# Altium schematic symbol library shm_schem_lib.SchLib: 49 symbols (part 2 of 2)
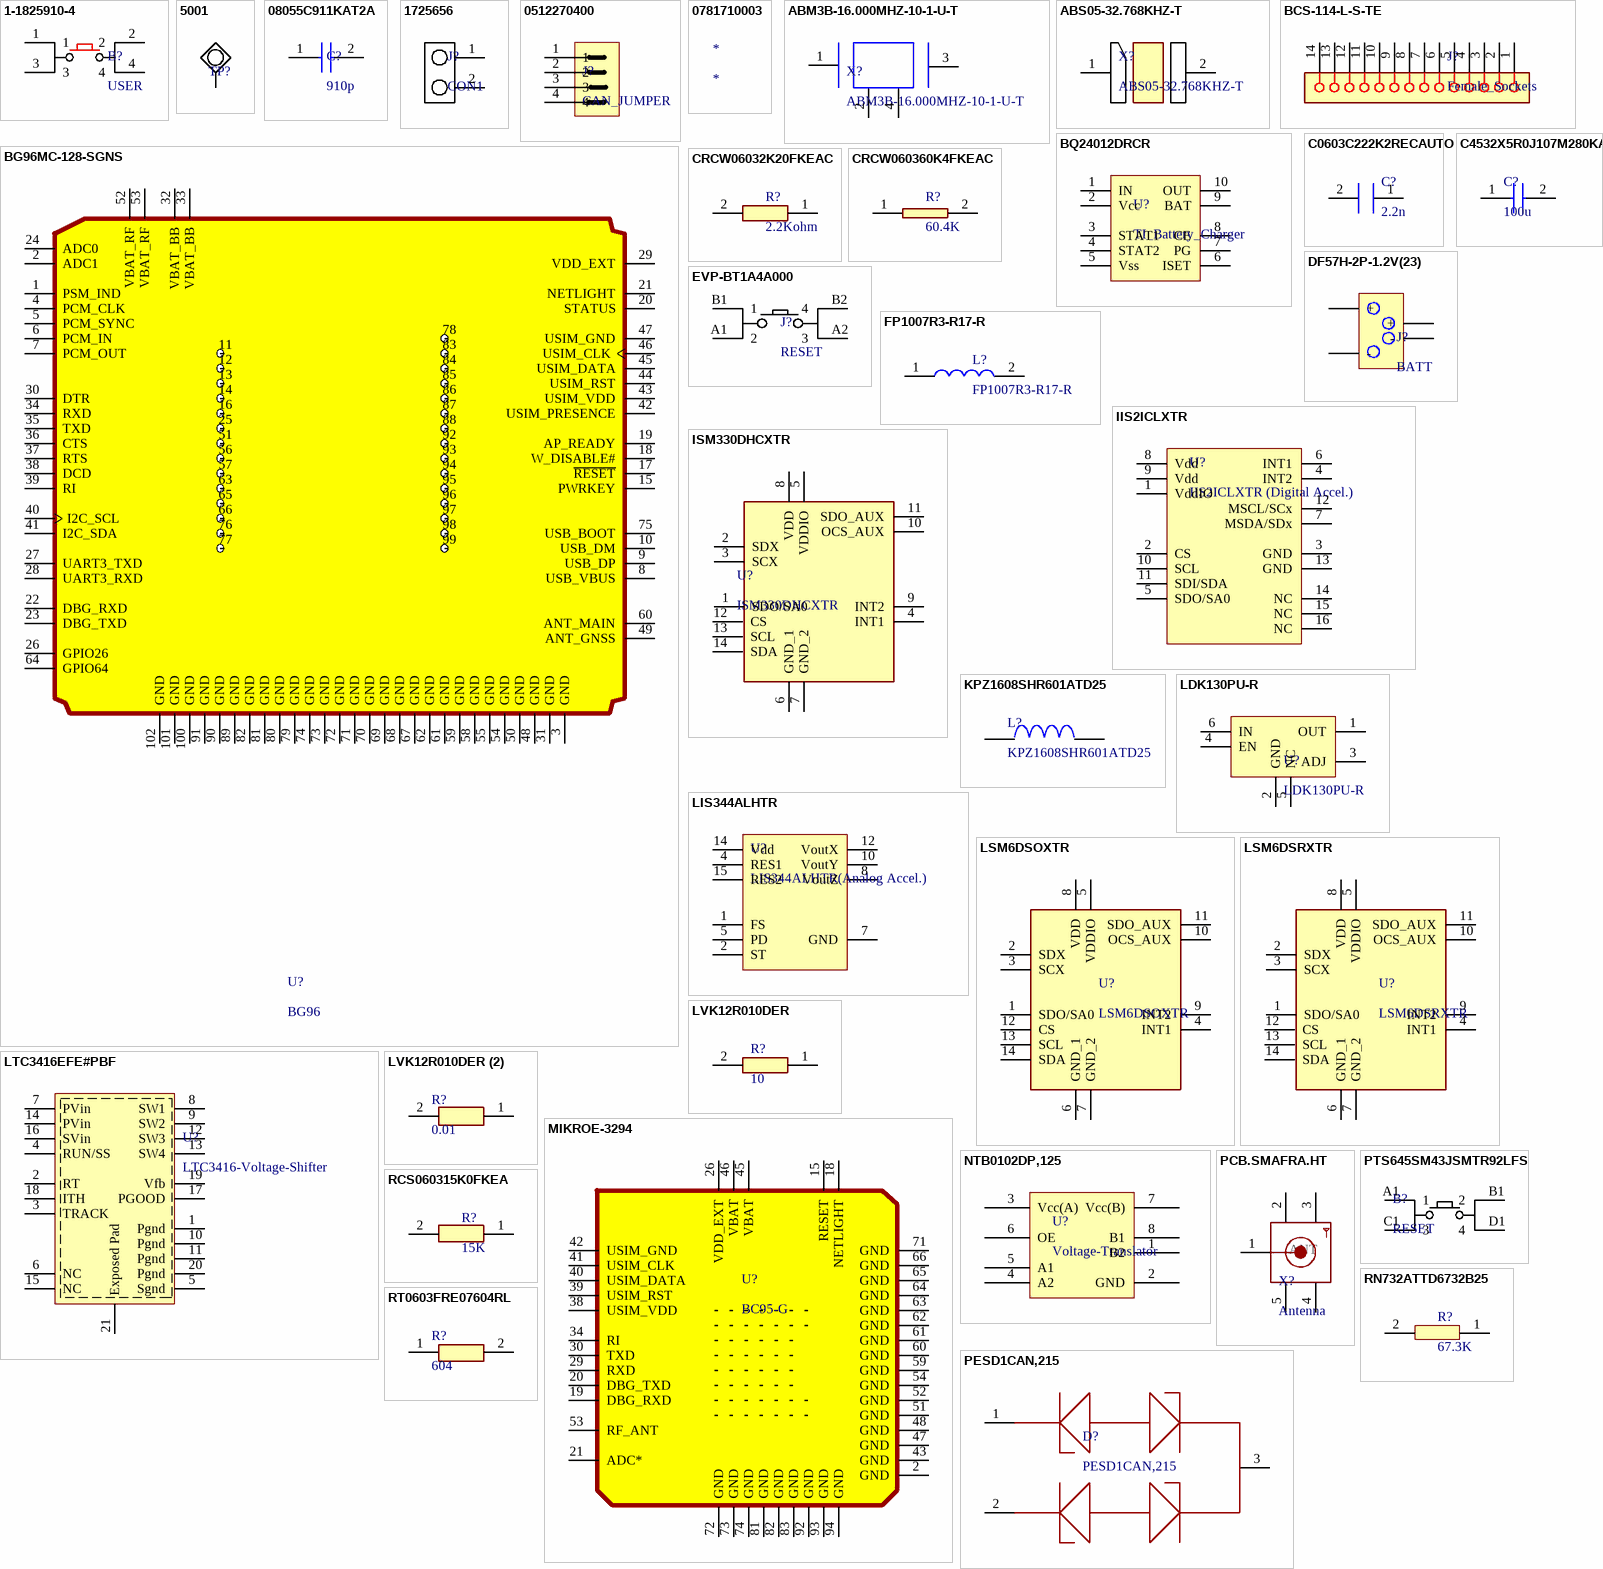
[diagram p2: symbols 1-1825910-4 to RT0603FRE07604RL]

## RT0603FRE07604RL
designator R?, comment 604
Res Thin Film 0603 604 Ohm 1% 1/10W ±50ppm/°C Molded SMD SMD Paper T/R; Manufacturer: Yageo; Manufacturer Part Number: RT0603FRE07604RL; Voltage Rating: 75V; Resistance: 604R; Power Rating: 100mW; Voltage Rating (DC): 50V; Supplier 1: Digi-Key; Supplier Part Number 1: 13-RT0603FRE07604RLCT-ND; RoHS: Yes; Category: Chip SMD Resistors; Stock 1: 6284; Case/Package: 0603; Case Code (Metric): 1608; Case Code (Imperial): 0603; Contact Plating: Tin,Matte; Min Operating Temperature: -55°C; Max Operating Temperature: 125°C; Tolerance: 1%; Packaging: Tape and Reel; Package Quantity: 5000; Resistor Type: Thin Film; Termination: SMD/SMT; Number of Terminations: 2; Temperature Coefficient: 50ppm/°C; Max Power Dissipation: 100mW; Series: RT; Construction: Rectangular; Length: 0.063inch; Width: 0.031inch; Height: 0.022inch; Depth: 0.8mm; Radiation Hardening: No; Military Standard: Not; Lead Free: Lead Free; RoHS Compliant: Yes; ComponentLink1URL: https://datasheet.ciiva.com/2559/pyu-rt-1-to-0-05-rohs-l-5-2559885.pdf?src-supplier=Digi-Key; ComponentLink1Description: https://datasheet.ciiva.com/2559/pyu-rt-1-to-0-05-rohs-l-5-2559885.pdf?src-supplier=Digi-Key; ComponentLink2URL: https://datasheet.ciiva.com/8885/pyu-rt-1-to-0-05-rohs-l-4-8885229.pdf?src-supplier=Avnet; ComponentLink2Description: https://datasheet.ciiva.com/8885/pyu-rt-1-to-0-05-rohs-l-4-8885229.pdf?src-supplier=Avnet
pins: 1, 2

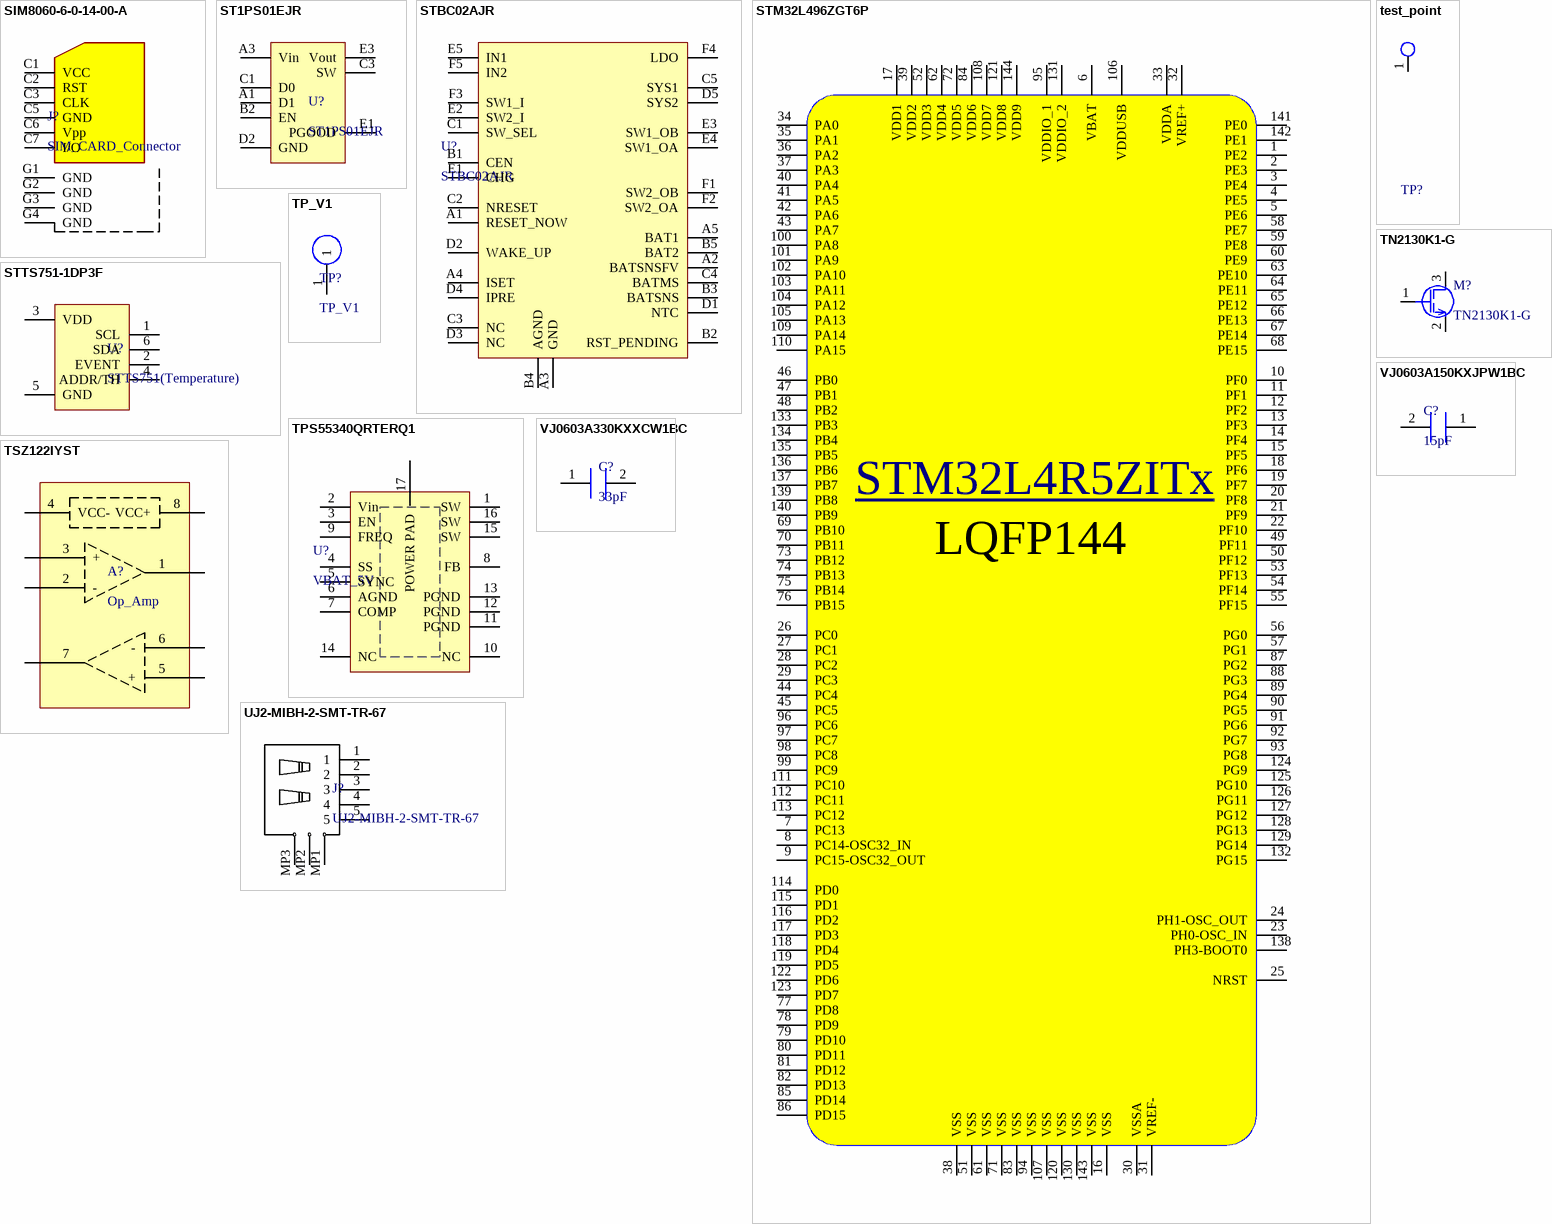
[diagram p1: symbols SIM8060-6-0-14-00-A to VJ0603A330KXXCW1BC]

## SIM8060-6-0-14-00-A
designator J?, comment SIM_CARD_Connector
Sim Nano Hinged, 6P, 1.40MM Prof; Manufacturer: GCT; Manufacturer Part Number: SIM8060-6-0-14-00-A; Supplier 1: Digi-Key; Supplier Part Number 1: 2073-SIM8060-6-0-14-00-ACT-ND
footprint SIM8060601400A
pins: C1 VCC, C2 RST, C3 CLK, C5 GND, C6 Vpp, C7 I/O, G1 GND, G2 GND, G3 GND, G4 GND

## ST1PS01EJR
designator U?
400mA Nano-Quiescent Synchronous step-down converter with digital voltage select; Manufacturer: STMicroelectronics; Output Type: Fixed; Output Configuration: Positive; Number of Outputs: 1; Min Input Voltage: 1.8V; Max Input Voltage: 5.5V; Min Output Voltage: 3.3V; Switching Frequency: 2MHz; Synchronous Rectifier: Yes; Supplier 1: RSComponents; Supplier Part Number 1: 1924839; Manufacturer Part Number: ST1PS01EJR; RoHS: Yes; Category: Voltage Regulators - Switching; Stock 1: 500; Mount: Surface Mount; Min Operating Temperature: -40°C; Max Operating Temperature: 85°C; Packaging: Tape and Reel; Output Current: 400mA; RoHS Compliant: Yes; ComponentLink1URL: https://www.st.com/resource/en/datasheet/st1ps01.pdf?src-supplier=Digi-Key; ComponentLink1Description: https://www.st.com/resource/en/datasheet/st1ps01.pdf?src-supplier=Digi-Key
footprint ST1PS01EJR
pins: A1 D1, A3 Vin, B2 EN, C1 D0, C3 SW, D2 GND, E1 PGOOD, E3 Vout

## STBC02AJR
designator U?
Li-Ion linear battery charger with LDO, load switches and reset generator; Manufacturer: STMicroelectronics; Number of Cells: 1; Max Charge Current: 450mA; Supplier 1: Digi-Key; Supplier Part Number 1: 497-16561-1-ND; Manufacturer Part Number: STBC02AJR; RoHS: Yes; Category: Power Management ICs; Stock 1: 2944; Number of Pins: 30; Min Operating Temperature: -40°C; Max Operating Temperature: 85°C; Packaging: Cut Tape; REACH SVHC: No SVHC; RoHS Compliant: Yes; ComponentLink1URL: http://www.st.com/content/ccc/resource/technical/document/datasheet/group3/af/ef/64/cd/00/0f/41/1a/DM00289033/files/DM00289033.pdf/jcr:content/translations/en.DM00289033.pdf?src-supplier=Digi-Key; ComponentLink1Description: http://www.st.com/content/ccc/resource/technical/document/datasheet/group3/af/ef/64/cd/00/0f/41/1a/DM00289033/files/DM00289033.pdf/jcr:content/translations/en.DM00289033.pdf?src-supplier=Digi-Key; ComponentLink2URL: http://www.farnell.com/datasheets/2145097.pdf?src-supplier=Element14; ComponentLink2Description: http://www.farnell.com/datasheets/2145097.pdf?src-supplier=Element14
footprint BGA30C40P5X6_225X259X60
pins: A1 RESET_NOW, A2 BATSNSFV, A3 GND, A4 ISET, A5 BAT1, B1 CEN, B2 RST_PENDING, B3 BATSNS, B4 AGND, B5 BAT2, C1 SW_SEL, C2 NRESET, C3 NC, C4 BATMS, C5 SYS1, D1 NTC, D2 WAKE_UP, D3 NC, D4 IPRE, D5 SYS2, E1 CHG, E2 SW2_I, E3 SW1_OB, E4 SW1_OA, E5 IN1, F1 SW2_OB, F2 SW2_OA, F3 SW1_I, F4 LDO, F5 IN2

## STM32L496ZGT6P
designator U?
Ultra-low-power with FPU ARM Cortex-M4 MCU 80 MHz with 1 Mbyte Flash, USB OTG, LCD, DFSDM; Manufacturer: STMicroelectronics; Interface: I2C,SPI,USB,IrDA,MMC,SD,UART,USART,EBI/EMI; Peripherals: Brown-out Detect/Reset,PWM,WDT,DMA,LCD; Frequency: 80MHz; Number of I/Os: 115; Memory Size: 1MB; Oscillator Type: Internal; Supplier 1: Digi-Key; Supplier Part Number 1: 497-17999-ND; Manufacturer Part Number: STM32L496ZGT6P; RoHS: Yes; Category: Microcontrollers; Case/Package: LQFP; Min Operating Temperature: -40°C; Max Operating Temperature: 85°C; Memory Type: FLASH; Packaging: Tray; Core Architecture: ARM; ComponentLink1URL: http://www.farnell.com/datasheets/2602789.pdf?src-supplier=Farnell; ComponentLink1Description: http://www.farnell.com/datasheets/2602789.pdf?src-supplier=Farnell; ComponentLink2URL: http://www.st.com/content/ccc/resource/technical/document/datasheet/group3/3f/73/19/d1/d4/9e/48/34/DM00284211/files/DM00284211.pdf/jcr:content/translations/en.DM00284211.pdf?src-supplier=Digi-Key; ComponentLink2Description: http://www.st.com/content/ccc/resource/technical/document/datasheet/group3/3f/73/19/d1/d4/9e/48/34/DM00284211/files/DM00284211.pdf/jcr:content/translations/en.DM00284211.pdf?src-supplier=Digi-Key; ComponentLink3URL: http://www.farnell.com/datasheets/2602789.pdf?src-supplier=Newark; ComponentLink3Description: http://www.farnell.com/datasheets/2602789.pdf?src-supplier=Newark
footprint QFP50P2200X2200X160-144N
pins: 1 PE2, 2 PE3, 3 PE4, 4 PE5, 5 PE6, 6 VBAT, 7 PC13, 8 PC14-OSC32_IN, 9 PC15-OSC32_OUT, 10 PF0, 11 PF1, 12 PF2, 13 PF3, 14 PF4, 15 PF5, 16 VSS, 17 VDD1, 18 PF6, 19 PF7, 20 PF8, 21 PF9, 22 PF10, 23 PH0-OSC_IN, 24 PH1-OSC_OUT, 25 NRST, 26 PC0, 27 PC1, 28 PC2, 29 PC3, 30 VSSA, 31 VREF-, 32 VREF+, 33 VDDA, 34 PA0, 35 PA1, 36 PA2, 37 PA3, 38 VSS, 39 VDD2, 40 PA4, 41 PA5, 42 PA6, 43 PA7, 44 PC4, 45 PC5, 46 PB0, 47 PB1, 48 PB2, 49 PF11, 50 PF12, 51 VSS, 52 VDD3, 53 PF13, 54 PF14, 55 PF15, 56 PG0, 57 PG1, 58 PE7, 59 PE8, 60 PE9, 61 VSS, 62 VDD4, 63 PE10, 64 PE11, 65 PE12, 66 PE13, 67 PE14, 68 PE15, 69 PB10, 70 PB11, 71 VSS, 72 VDD5, 73 PB12, 74 PB13, 75 PB14, 76 PB15, 77 PD8, 78 PD9, 79 PD10, 80 PD11, 81 PD12, 82 PD13, 83 VSS, 84 VDD6, 85 PD14, 86 PD15, 87 PG2, 88 PG3, 89 PG4, 90 PG5, 91 PG6, 92 PG7, 93 PG8, 94 VSS, 95 VDDIO_1, 96 PC6, 97 PC7, 98 PC8, 99 PC9, 100 PA8, 101 PA9, 102 PA10, 103 PA11, 104 PA12, 105 PA13, 106 VDDUSB, 107 VSS, 108 VDD7, 109 PA14, 110 PA15, 111 PC10, 112 PC11, 113 PC12, 114 PD0, 115 PD1, 116 PD2, 117 PD3, 118 PD4, 119 PD5, 120 VSS, 121 VDD8, 122 PD6, 123 PD7, 124 PG9, 125 PG10, 126 PG11, 127 PG12, 128 PG13, 129 PG14, 130 VSS, 131 VDDIO_2, 132 PG15, 133 PB3, 134 PB4, 135 PB5, 136 PB6, 137 PB7, 138 PH3-BOOT0, 139 PB8, 140 PB9, 141 PE0, 142 PE1, 143 VSS, 144 VDD9
text: STM32L4R5ZITx; LQFP144

## STTS751-1DP3F
designator U?, comment STTS751(Temperature)
SENSOR TEMPERATURE SMBUS 6UDFN; Manufacturer: STMicroelectronics; Manufacturer Part Number: STTS751-1DP3F; Interface: I2C,SMBus,2-Wire,Serial; Resolution: 12b; Output Type: Digital; Max Output Current: 20mA; Min Supply Voltage: 2.25V; Max Supply Voltage: 3.6V; Min Supply Voltage (DC): 2V; Operating Supply Current: 50uA; Supplier 1: RSComponents; Supplier Part Number 1: 1908454; RoHS: Yes; Category: Sensors; Stock 1: 1; Mount: Surface Mount; Number of Pins: 6; Min Operating Temperature: -40°C; Max Operating Temperature: 125°C; Package Quantity: 3000; Packaging: Tape and Reel; Output Current: 20mA; Max Supply Voltage (DC): 3.6V; Series: STTS751; Radiation Hardening: No; Lead Free: Lead Free; RoHS Compliant: Yes; ComponentLink1URL: https://datasheet.ciiva.com/5299/cd00252523-68863-5299731.pdf?src-supplier=Mouser; ComponentLink1Description: https://datasheet.ciiva.com/5299/cd00252523-68863-5299731.pdf?src-supplier=Mouser; ComponentLink2URL: https://datasheet.ciiva.com/2003/cd00252523-2003053.pdf?src-supplier=Digi-Key; ComponentLink2Description: https://datasheet.ciiva.com/2003/cd00252523-2003053.pdf?src-supplier=Digi-Key; ComponentLink3URL: https://datasheet.ciiva.com/2003/cd00252523-2003054.pdf?src-supplier=Digi-Key; ComponentLink3Description: https://datasheet.ciiva.com/2003/cd00252523-2003054.pdf?src-supplier=Digi-Key; ComponentLink4URL: https://datasheet.ciiva.com/16635/cd00252523-16635462.pdf?src-supplier=Avnet+Europe; ComponentLink4Description: https://datasheet.ciiva.com/16635/cd00252523-16635462.pdf?src-supplier=Avnet+Europe; ComponentLink5URL: https://datasheet.ciiva.com/2003/cd00252523-2003052.pdf?src-supplier=Digi-Key; ComponentLink5Description: https://datasheet.ciiva.com/2003/cd00252523-2003052.pdf?src-supplier=Digi-Key
footprint SOT95P280X145-6N
pins: 1 SCL, 2 EVENT, 3 VDD, 4 ADDR/TH, 5 GND, 6 SDA

## test_point
designator TP?  (value not drawn)  (no BOM)
footprint test_point
pins: 1 TP

## TN2130K1-G
designator M?
Mosfet, N-Channel Enhancement-Mode, 300V, 25 Ohm Rohs Compliant: Yes; Manufacturer: Microchip Supertex; Rise Time: 7ns; Continuous Drain Current (ID): 85mA; Power Dissipation: 360mW; Drain to Source Resistance: 25R; Turn-Off Delay Time: 12ns; Number of Elements: 1; Gate to Source Voltage (Vgs): 20V; Element Configuration: Single; Supplier 1: Digi-Key; Supplier Part Number 1: TN2130K1-GCT-ND; Manufacturer Part Number: TN2130K1-G; RoHS: Yes; Category: MOSFETs; Stock 1: 1445; Mount: Surface Mount; Case/Package: SOT-23; Number of Pins: 3; Min Operating Temperature: -55°C; Max Operating Temperature: 150°C; Package Quantity: 3000; Packaging: Tape and Reel; Drain to Source Breakdown Voltage: 300V; Fall Time: 7ns; Radiation Hardening: No; Lead Free: Lead Free; ComponentLink1URL: https://datasheet.ciiva.com/30232/616tn2130-30232358.pdf?src-supplier=Onlinecomponents.com; ComponentLink1Description: https://datasheet.ciiva.com/30232/616tn2130-30232358.pdf?src-supplier=Onlinecomponents.com; ComponentLink2URL: https://datasheet.ciiva.com/16232/tn2130-16232280.pdf?src-supplier=Onlinecomponents.com; ComponentLink2Description: https://datasheet.ciiva.com/16232/tn2130-16232280.pdf?src-supplier=Onlinecomponents.com
footprint SOT95P237X112-3N
pins: 1 G, 2 S, 3 D

## TP_V1
designator TP?
footprint TP_V1
pins: 1

## TPS55340QRTERQ1
designator U?, comment VBAT_5V
Conv DC-DC 2.9V to 38V Step Up Single-Out 2.9V to 38V 5A Automotive 16-Pin WQFN EP T/R; Manufacturer: Texas Instruments; Manufacturer Part Number: TPS55340QRTERQ1; Number of Outputs: 1; Output Current: 5.25A; Switching Frequency: 2.55MHz; Synchronous Rectifier: No; Quiescent Current: 500uA; Topology: Boost,Flyback,SEPIC; Output Type: Adjustable; Supplier 1: Mouser; Supplier Part Number 1: 595-TPS55340QRTERQ1; RoHS: Yes; Category: Power Supply Modules; Stock 1: 60; Mount: Surface Mount; Number of Pins: 16; Contact Plating: Gold; Min Operating Temperature: -40°C; Max Operating Temperature: 125°C; Packaging: Tape and Reel; Output Voltage: 38V; Max Output Current: 5A; Min Input Voltage: 2.9V; Max Input Voltage: 38V; Min Output Voltage: 2.9V; Max Output Voltage: 38V; Operating Supply Voltage: 38V; Lead Free: Lead Free; RoHS Compliant: Yes; ComponentLink1URL: http://components.arrow.com/part/dataview/66951772S909397N7713?src-supplier=Arrow+Electronics; ComponentLink1Description: http://components.arrow.com/part/dataview/66951772S909397N7713?src-supplier=Arrow+Electronics; ComponentLink2URL: http://www.ti.com/general/docs/lit/getliterature.tsp?genericPartNumber=TPS55340-Q1&&fileType=pdf&src-supplier=Avnet; ComponentLink2Description: http://www.ti.com/general/docs/lit/getliterature.tsp?genericPartNumber=TPS55340-Q1&&fileType=pdf&src-supplier=Avnet; ComponentLink3URL: http://www.ti.com/general/docs/lit/getliterature.tsp?genericPartNumber=TPS55340-Q1&&fileType=pdf&src-supplier=Avnet+Asia; ComponentLink3Description: http://www.ti.com/general/docs/lit/getliterature.tsp?genericPartNumber=TPS55340-Q1&&fileType=pdf&src-supplier=Avnet+Asia; ComponentLink4URL: http://www.ti.com/lit/ds/symlink/tps55340-q1.pdf?src-supplier=Digi-Key; ComponentLink4Description: http://www.ti.com/lit/ds/symlink/tps55340-q1.pdf?src-supplier=Digi-Key
footprint QFN50P300X300X80-17N-D
pins: 1 SW, 2 Vin, 3 EN, 4 SS, 5 SYNC, 6 AGND, 7 COMP, 8 FB, 9 FREQ, 10 NC, 11 PGND, 12 PGND, 13 PGND, 14 NC, 15 SW, 16 SW, 17 POWER PAD

## TSZ122IYST
designator A?, comment Op_Amp
Op Amp Dual Micropower Amplifier R-R I/O 5.5V Automotive 8-Pin Mini-SO T/R; Manufacturer: STMicroelectronics; Manufacturer Part Number: TSZ122IYST; Number of Circuits: 2; Slew Rate: 0.19V/µs; Gain Bandwidth Product: 400kHz; Input Bias Current: 70pA; Input Offset Voltage (Vos): 1uV; Operating Supply Current: 31uA; Output Current per Channel: 18mA; Supplier 1: Mouser; Supplier Part Number 1: 511-TSZ122IYST; RoHS: Yes; Category: Amplifiers - Op Amps, Buffer, Instrumentation; Stock 1: 4000; Mount: Surface Mount; Case/Package: SOIC; Number of Pins: 8; Min Operating Temperature: -40°C; Max Operating Temperature: 125°C; Packaging: Tape and Reel; Bandwidth: 400kHz; Number of Amplifiers: 2; REACH SVHC: No SVHC; Lead Free: Lead Free; RoHS Compliant: Yes; ComponentLink1URL: http://www.farnell.com/datasheets/1878184.pdf?src-supplier=Farnell; ComponentLink1Description: http://www.farnell.com/datasheets/1878184.pdf?src-supplier=Farnell; ComponentLink2URL: http://www.mouser.com/ds/2/389/tsz121-957398.pdf?src-supplier=Mouser; ComponentLink2Description: http://www.mouser.com/ds/2/389/tsz121-957398.pdf?src-supplier=Mouser; ComponentLink3URL: http://www.st.com/st-web-ui/static/active/en/resource/technical/document/datasheet/DM00062815.pdf?src-supplier=Avnet; ComponentLink3Description: http://www.st.com/st-web-ui/static/active/en/resource/technical/document/datasheet/DM00062815.pdf?src-supplier=Avnet; ComponentLink4URL: http://www.farnell.com/datasheets/1878184.pdf?src-supplier=Element14; ComponentLink4Description: http://www.farnell.com/datasheets/1878184.pdf?src-supplier=Element14; ComponentLink5URL: http://www.st.com/content/ccc/resource/technical/document/datasheet/9d/1c/c1/8f/72/a2/48/95/DM00062815.pdf/files/DM00062815.pdf/jcr:content/translations/en.DM00062815.pdf?src-supplier=Digi-Key; ComponentLink5Description: http://www.st.com/content/ccc/resource/technical/document/datasheet/9d/1c/c1/8f/72/a2/48/95/DM00062815.pdf/files/DM00062815.pdf/jcr:content/translations/en.DM00062815.pdf?src-supplier=Digi-Key
pins: 1, 2 -, 3 +, 4 VCC-, 5 +, 6 -, 7, 8 VCC+

## UJ2-MIBH-2-SMT-TR-67
designator J?
Micro B, USB 2.0, 1.8 A, Right Angle, Surface Mount (SMT), Waterproof, USB Receptacle; Manufacturer: CUI Devices; Supplier 1: Digi-Key; Supplier Part Number 1: 102-5575-1-ND; Manufacturer Part Number: UJ2-MIBH-2-SMT-TR-67; RoHS: Yes; Category: USB Connectors; Stock 1: 65
footprint UJ2MIBH2SMTTR67
pins: 1, 2, 3, 4, 5, MP1, MP2, MP3

## VJ0603A150KXJPW1BC
designator C?, comment 15pF
CAP CER 15PF 16V C0G/NP0 0603; Manufacturer: Vishay Vitramon; Manufacturer Part Number: VJ0603A150KXJPW1BC; Dielectric Material: Tantalum; Tolerance: 10%; Dielectric: C0G; Supplier 1: Digi-Key; Supplier Part Number 1: 720-VJ0603A150KXJPW1BCCT-ND; RoHS: Yes; Category: Ceramic Capacitors; Stock 1: 13534; Mount: Surface Mount; Case/Package: 0603; Case Code (Imperial): 0603; Case Code (Metric): 1608; Min Operating Temperature: -55°C; Max Operating Temperature: 125°C; Capacitance: 15pF; Voltage Rating: 16V; Voltage Rating (DC): 16V; Packaging: Tape and Reel; Package Quantity: 15000; Termination: SMD/SMT; Series: VJ W1BC; Construction: Flat; Length: 1.6mm; Width: 0.8mm; Height: 0.95mm; Depth: 0.8mm; Lead Free: Lead Free; RoHS Compliant: Yes; ComponentLink1URL: https://datasheet.ciiva.com/5423/vjw1bcbascomseries-223529-5423350.pdf?src-supplier=Mouser; ComponentLink1Description: https://datasheet.ciiva.com/5423/vjw1bcbascomseries-223529-5423350.pdf?src-supplier=Mouser; ComponentLink2URL: https://datasheet.ciiva.com/16503/vjw1bcbascomseries-16503578.pdf?src-supplier=Future+Electronics; ComponentLink2Description: https://datasheet.ciiva.com/16503/vjw1bcbascomseries-16503578.pdf?src-supplier=Future+Electronics
pins: 1, 2

## VJ0603A330KXXCW1BC
designator C?, comment 33pF
Cap Ceramic 33pF 25V C0G 10% SMD 0603 125°C Paper T/R; Manufacturer: Vishay Vitramon; Manufacturer Part Number: VJ0603A330KXXCW1BC; Dielectric Material: Tantalum; Supplier 1: Mouser; Supplier Part Number 1: 77-VJ0603A330KXXCBC; RoHS: Yes; Category: Ceramic Capacitors; Stock 1: 1121; Mount: Surface Mount; Case/Package: 0603; Case Code (Imperial): 0603; Case Code (Metric): 1608; Min Operating Temperature: -55°C; Max Operating Temperature: 125°C; Capacitance: 33pF; Tolerance: 10%; Package Quantity: 4000; Packaging: Tape and Reel; Dielectric: C0G; Voltage Rating (DC): 25V; Termination: SMD/SMT; Series: VJ W1BC; Construction: Flat; Length: 1.6mm; Width: 0.8mm; Height: 0.95mm; Depth: 0.8mm; Lead Free: Lead Free; RoHS Compliant: Yes; ComponentLink1URL: http://www.mouser.com/ds/2/427/vjw1bcbascomseries-223529.pdf?src-supplier=Mouser; ComponentLink1Description: http://www.mouser.com/ds/2/427/vjw1bcbascomseries-223529.pdf?src-supplier=Mouser; ComponentLink2URL: http://www.vishay.com/docs/28548/vjw1bcbascomseries.pdf?src-supplier=Avnet; ComponentLink2Description: http://www.vishay.com/docs/28548/vjw1bcbascomseries.pdf?src-supplier=Avnet; ComponentLink3URL: https://www.vishay.com/docs/28548/vjw1bcbascomseries.pdf?src-supplier=Digi-Key; ComponentLink3Description: https://www.vishay.com/docs/28548/vjw1bcbascomseries.pdf?src-supplier=Digi-Key
pins: 1, 2